# EAGLE library part MIC5219-VDFN-6 (library SamacSys_Parts)
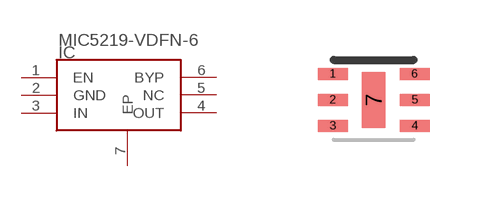
[diagram p22: symbol with the pads of VDFN-6; footprint VDFN-6]

Designator prefix IC

## MIC5219-VDFN-6  [VDFN-6]
1  EN
2  GND  pwr
3  IN  pwr
4  OUT  pwr
5  NC
6  BYP
7  EP  pwr

## Footprint VDFN-6 (pad centres in mm)
smd 0.75 x 0.3: 1 -1.025,0.65; 2 -1.025,0; 3 -1.025,-0.65; 4 1.025,-0.65; 5 1.025,0; 6 1.025,0.65
smd 0.6 x 1.4: 7 0,0